# EAGLE library part M07 (library pie)
7-pin 0.1-inch header and MTA connector
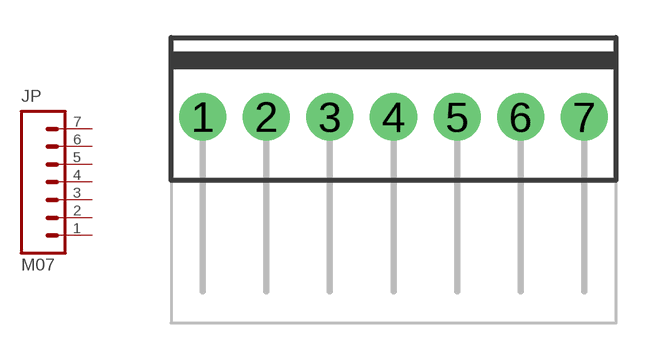
[diagram p10: symbol with the pads of 1X07-MTA; footprint 1X07-MTA]

Designator prefix JP

## M07 (PIE-INT-REF-NUM: MTA)  [1X07-MTA]
1  1  pas
2  2  pas
3  3  pas
4  4  pas
5  5  pas
6  6  pas
7  7  pas

## Footprint 1X07-MTA (pad centres in mm)
7-pin MTA connector
drill 1.016 pad 1.88: 1 -7.62,0; 2 -5.08,0; 3 -2.54,0; 4 0,0; 5 2.54,0; 6 5.08,0; 7 7.62,0